# EAGLE library part ICS-43434 (library tft_display)
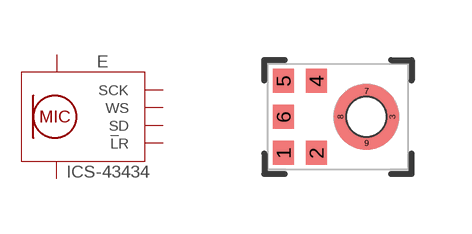
[diagram p2: symbol with the pads of ICS-43434; footprint ICS-43434]

Designator prefix E

## ICS-43434 (PROD_ID: COMP-14898)  [ICS-43434]
1  WS  out
2  !L!R  in
3  GND  pwr
4  SCK  in
5  VDD  pwr
6  SD  in
7  GND  pwr
8  GND  pwr
9  GND  pwr

## Footprint ICS-43434 (pad centres in mm)
smd 0.522 x 0.6: 1 -1.364,-0.9; 2 -0.542,-0.9; 4 -0.542,0.9; 5 -1.364,0.9; 6 -1.364,0
smd 0.2 x 0.5: 3 1.36,0; 8 0.06,0
smd 0.5 x 0.2: 7 0.71,0.65; 9 0.71,-0.65
hole 1 at 0.71,0